# Altium schematic symbol library SIM7080G.SchLib: 1 symbol
Pins are listed as number, name and electrical type; pins without a type are passive.

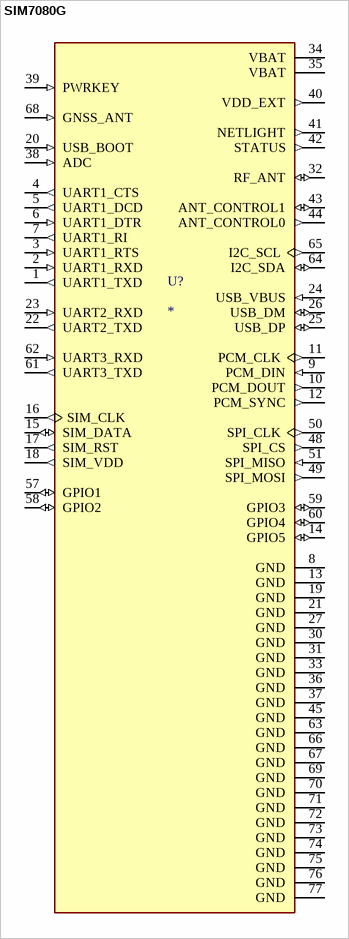
[diagram p0: symbol SIM7080G]

## SIM7080G
designator U?
Cellular, Navigation Galileo, GLONASS, GPS, GNSS, LTE Transceiver Module 1.559GHz ~ 1.576GHz, 1.575GHz ~ 1.576GHz, 1.574GHz ~ 1.606GHz, 1.598GHz ~ 1.563GHz Antenna Not Included Surface Mount; MF: SIMCom; MP: SIM7080G; SnapEDA_Link: https://www.snapeda.com/parts/SIM7080G/SIMCom/view-part/?ref=snap; Package: Package; Value: *; Check_prices: https://www.snapeda.com/parts/SIM7080G/SIMCom/view-part/?ref=eda
footprint XCVR_SIM7080G
pins: 1 UART1_TXD (out), 2 UART1_RXD (in), 3 UART1_RTS (in), 4 UART1_CTS (out), 5 UART1_DCD (out), 6 UART1_DTR (in), 7 UART1_RI (out), 8 GND (power), 9 PCM_DIN (in), 10 PCM_DOUT (out), 11 PCM_CLK (out), 12 PCM_SYNC (out), 13 GND (power), 14 GPIO5 (io), 15 SIM_DATA (io), 16 SIM_CLK (out), 17 SIM_RST (out), 18 SIM_VDD (out), 19 GND (power), 20 USB_BOOT (in), 21 GND (power), 22 UART2_TXD (out), 23 UART2_RXD (in), 24 USB_VBUS (in), 25 USB_DP (io), 26 USB_DM (io), 27 GND (power), 30 GND (power), 31 GND (power), 32 RF_ANT (io), 33 GND (power), 34 VBAT (power), 35 VBAT (power), 36 GND (power), 37 GND (power), 38 ADC (in), 39 PWRKEY (in), 40 VDD_EXT (out), 41 NETLIGHT (out), 42 STATUS (out), 43 ANT_CONTROL1 (io), 44 ANT_CONTROL0 (out), 45 GND (power), 48 SPI_CS (out), 49 SPI_MOSI (out), 50 SPI_CLK (out), 51 SPI_MISO (in), 57 GPIO1 (io), 58 GPIO2 (io), 59 GPIO3 (io), 60 GPIO4 (io), 61 UART3_TXD (out), 62 UART3_RXD (in), 63 GND (power), 64 I2C_SDA (io), 65 I2C_SCL (out), 66 GND (power), 67 GND (power), 68 GNSS_ANT (in), 69 GND (power), 70 GND (power), 71 GND (power), 72 GND (power), 73 GND (power), 74 GND (power), 75 GND (power), 76 GND (power), 77 GND (power)